# Altium schematic symbol library 30.002.SchLib: 1 symbol
Pins are listed as number, name and electrical type; pins without a type are passive.

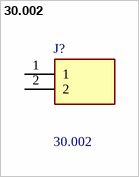
[diagram p0: symbol 30.002]

## 30.002
designator J?
Fixed Terminal Blocks AK100/2wp PCBGry; Manufacturer_Name: Altech; Geometry.Height: 12.5mm; Manufacturer_Part_Number: 30.002; Mouser Part Number: 845-30.002; Mouser Price/Stock: https://www.mouser.co.uk/ProductDetail/Altech/30.002?qs=GlCpp4uMqnB%2FSggixfJMBw%3D%3D; Arrow Part Number: *; Arrow Price/Stock: *; Datasheet Link: https://www.mouser.it/datasheet/2/16/PCBMETRC-24178.pdf
footprint 30002
pins: 1, 2